# EAGLE library part RFM9X_LORA (library altro)
HopeRF RFM95/96/97/98 LoRa Module
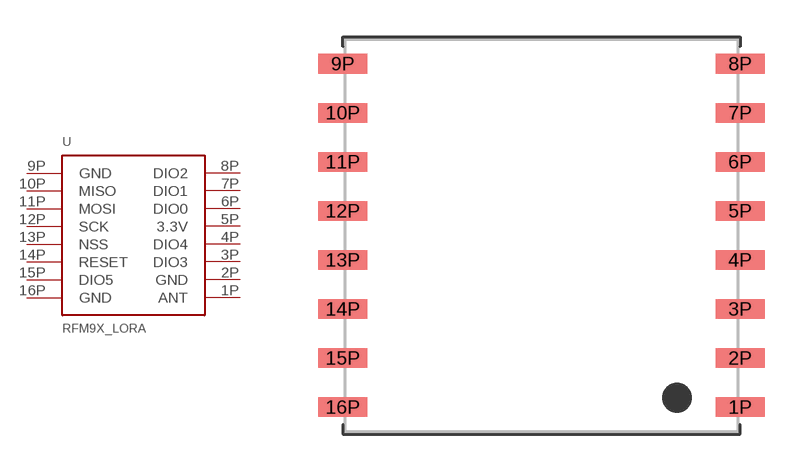
[diagram p0: symbol with the pads of RFM9X_SMT; footprint RFM9X_SMT]

Designator prefix -

## RFM9X_LORA  [RFM9X_SMT]
1P  ANT
2P  GND
3P  DIO3
4P  DIO4
5P  3.3V
6P  DIO0
7P  DIO1
8P  DIO2
9P  GND
10P  MISO
11P  MOSI
12P  SCK
13P  NSS
14P  RESET
15P  DIO5
16P  GND

## Footprint RFM9X_SMT (pad centres in mm)
smd 2 x 0.8: 1P 8.1,-7; 2P 8.1,-5; 3P 8.1,-3; 4P 8.1,-1; 5P 8.1,1; 6P 8.1,3; 7P 8.1,5; 8P 8.1,7; 9P -8.1,7; 10P -8.1,5; 11P -8.1,3; 12P -8.1,1; 13P -8.1,-1; 14P -8.1,-3; 15P -8.1,-5; 16P -8.1,-7